# EAGLE library part PT8A2704WEX (library Battery Chargers)
IC BATT CHG MULTI-CHEM 8SOIC Manufacturer's datasheet <https://www.diodes.com/assets/Datasheets/PT8A27042704A.pdf>
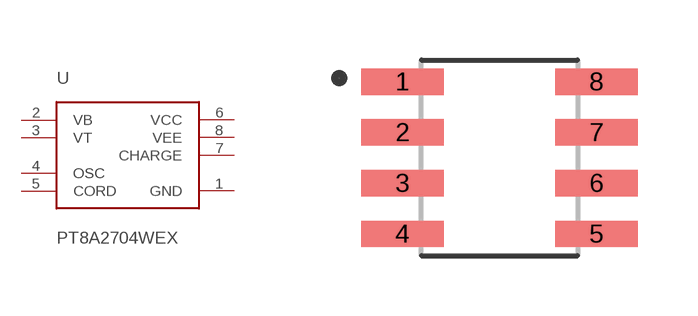
[diagram p13: symbol with the pads of PT8A2704WEX; footprint PT8A2704WEX]

Designator prefix U

## PT8A2704WEX (CREATED_BY: PCBLayout.com; DIGIKEY_PART_NUMBER: PT8A2704WEX-ND; MANUFACTURER: Diodes Incorporated; MPN: PT8A2704WEX; PACKAGE: 8-SOIC)  [PT8A2704WEX]
1  GND  pwr
2  VB  in
3  VT  in
4  OSC  in
5  CORD  in
6  VCC  pwr
7  CHARGE  out
8  VEE  out

## Footprint PT8A2704WEX (pad centres in mm)
smd 2.07 x 0.66: 1 -2.425,1.905; 2 -2.425,0.635; 3 -2.425,-0.635; 4 -2.425,-1.905; 5 2.425,-1.905; 6 2.425,-0.635; 7 2.425,0.635; 8 2.425,1.905